# Altium integrated library NSC MiscPower.IntLib: 742 symbols (part 16 of 19)
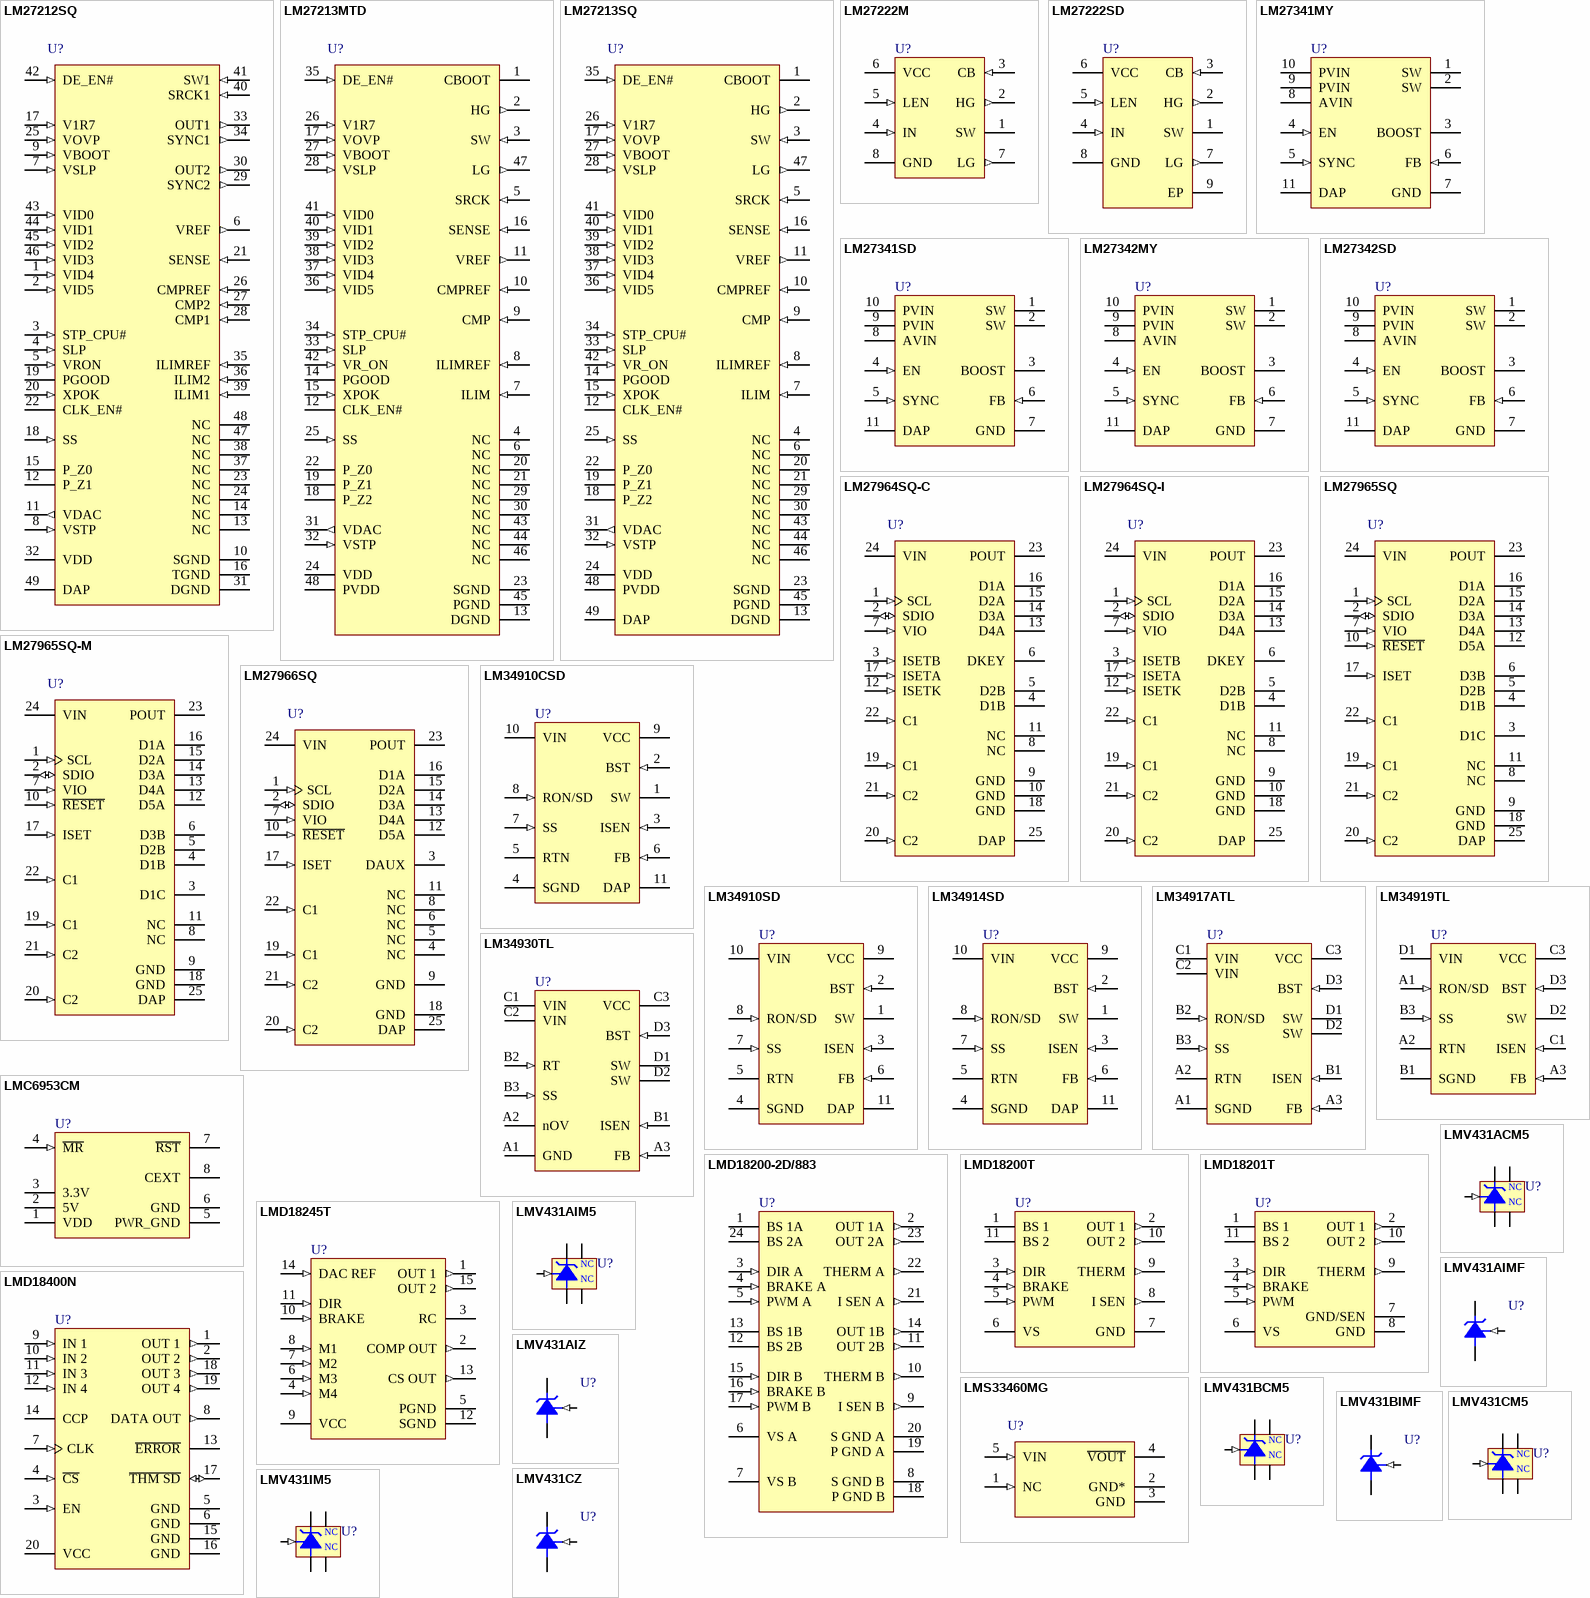
[diagram p40: symbols LM27212SQ to LMV431IM5]

## LM27213SQ
designator U?
Single Phase Hysteretic Buck Controller; PartNumber: LM27213SQ; Manufacturer: National Semiconductor; CompType: MiscPower; PackageTopMarking: NS*UZXYTT*27213SQ; PowerWise: N; FirstPublished: 4-Dec-2008; DatasheetVersion: Feb-2006; PackageVersion: revA, May-2003; PackageReference: SQA48A; Publisher: Altium Limited; PackageDescription: LLP, Plastic, Quad, 7 x 7 x 0.8mm Body, 48 Lead, 0.5mm Pitch, No Pullback; RoHS: Y; PinCount: 48; DigiKeyPartNumber: LM27213SQ-ND; Code_JEDEC: MO-220-WKKD-2; ComponentLink1Description: LM27213 Datasheet; ComponentLink1URL: http://www.national.com/ds/LM/LM27213.pdf; ComponentLink2Description: LM27213 Web Page; ComponentLink2URL: http://www.national.com/pf/LM/LM27213.html; ComponentLink3Description: SQA48A Package Page; ComponentLink3URL: http://www.national.com/packaging/folders/sqa48a.html
footprint SQA48A (QFN, 48-Leads, Body 7x7mm, Pitch 0.5mm, NSC Recommended)
pins: 1 CBOOT, 2 HG (out), 3 SW (in), 4 NC, 5 SRCK (in), 6 NC, 7 ILIM (in), 8 ILIMREF (in), 9 CMP (in), 10 CMPREF (in), 11 VREF (out), 12 CLK_EN# (oc), 13 DGND (power), 14 PGOOD (oc), 15 XPOK (in), 16 SENSE (in), 17 VOVP (in), 18 P_Z2, 19 P_Z1, 20 NC, 21 NC, 22 P_Z0, 23 SGND (power), 24 VDD (power), 25 SS (in), 26 V1R7 (in), 27 VBOOT (in), 28 VSLP (in), 29 NC, 30 NC, 31 VDAC (out), 32 VSTP (in), 33 SLP (in), 34 STP_CPU# (in), 35 DE_EN# (in), 36 VID5 (in), 37 VID4 (in), 38 VID3 (in), 39 VID2 (in), 40 VID1 (in), 41 VID0 (in), 42 VR_ON (in), 43 NC, 44 NC, 45 PGND (power), 46 NC, 47 LG (out), 48 PVDD (power), 49 DAP (power)

## LM27222M
designator U?
High-Speed 4.5A Synchronous MOSFET Driver; PartNumber: LM27222M; Manufacturer: National Semiconductor; CompType: MiscPower; PackageTopMarking: NSZXTT*27222*M; PowerWise: N; FirstPublished: 4-Dec-2008; DatasheetVersion: Mar-2006; PackageVersion: revL, Sep-2006; PackageReference: M08A; Publisher: Altium Limited; PackageDescription: SOIC Narrow, 4.9 x 3.9 x 1.45mm, 8 Lead, 1.27mm Pitch; RoHS: O; PinCount: 8; DigiKeyPartNumber: LM27222M-ND; Code_JEDEC: MS-012-AA; Code_IPC: SOIC127P600-8; ComponentLink1Description: LM27222 Datasheet; ComponentLink1URL: http://www.national.com/ds/LM/LM27222.pdf; ComponentLink2Description: LM27222 Web Page; ComponentLink2URL: http://www.national.com/pf/LM/LM27222.html; ComponentLink3Description: M08A Package Page; ComponentLink3URL: http://www.national.com/packaging/folders/m08a.html
footprint M08A_N (SOIC, 8-Leads, Body 4.9x3.9mm, Pitch 1.27mm, IPC Medium Density)
footprint M08A_L (SOIC, 8-Leads, Body 4.9x3.9mm, Pitch 1.27mm, IPC High Density)
footprint M08A_M (SOIC, 8-Leads, Body 4.9x3.9mm, Pitch 1.27mm, IPC Low Density)
pins: 1 SW (power), 2 HG (out), 3 CB (in), 4 IN (in), 5 LEN (in), 6 VCC (power), 7 LG (out), 8 GND (power)

## LM27222SD
designator U?
High-Speed 4.5A Synchronous MOSFET Driver; PartNumber: LM27222SD; Manufacturer: National Semiconductor; CompType: MiscPower; PackageTopMarking: NS*UZXYTT*L27222S; PowerWise: N; FirstPublished: 4-Dec-2008; DatasheetVersion: Mar-2006; PackageVersion: revA, Jun-2003; PackageReference: SDC08A; Publisher: Altium Limited; PackageDescription: LLP, Plastic, Dual, 4 x 4 x 0.8mm Body, 8 Lead, 0.8mm Pitch, No Pullback; RoHS: Y; PinCount: 8; DigiKeyPartNumber: LM27222SD-ND; ComponentLink1Description: LM27222 Datasheet; ComponentLink1URL: http://www.national.com/ds/LM/LM27222.pdf; ComponentLink2Description: LM27222 Web Page; ComponentLink2URL: http://www.national.com/pf/LM/LM27222.html; ComponentLink3Description: SDC08A Package Page; ComponentLink3URL: http://www.national.com/packaging/folders/sdc08a.html
footprint SDC08A (SON, 8-Leads, Body 4x4mm, Pitch 0.8mm, NSC Recommended)
pins: 1 SW (power), 2 HG (out), 3 CB (in), 4 IN (in), 5 LEN (in), 6 VCC (power), 7 LG (out), 8 GND (power), 9 EP (power)

## LM27341MY
designator U?
2MHz 1.5A - Wide Input Range Buck Regulator with Frequency Synchronization; PartNumber: LM27341MY; Manufacturer: National Semiconductor; CompType: MiscPower; PackageTopMarking: ZXTT*SSCB; PowerWise: N; FirstPublished: 29-May-2009; DatasheetVersion: Dec-2008; PackageVersion: revA, May-2006; PackageReference: MUC10A; Publisher: Altium Limited; PackageDescription: Molded Mini-SO, Exposed Pad .118 x .118 x .034in Body, 10 Lead, .0197in Pitch; RoHS: Y; PinCount: 10; DigiKeyPartNumber: LM27341MYCT-ND; Code_JEDEC: MO-187-BAT; ComponentLink1Description: LM27341 Datasheet; ComponentLink1URL: http://www.national.com/ds/LM/LM27341.pdf; ComponentLink2Description: LM27341 Web Page; ComponentLink2URL: http://www.national.com/pf/LM/LM27341.html; ComponentLink3Description: MUC10A Package Page; ComponentLink3URL: http://www.national.com/packaging/folders/muc10a.html
footprint MUC10A_N (TSSOP, 10-Leads, Body 3x3mm, Pitch 0.5mm, Exposed Pad, IPC Medium Density)
footprint MUC10A_L (TSSOP, 10-Leads, Body 3x3mm, Pitch 0.5mm, Exposed Pad, IPC High Density)
footprint MUC10A_M (TSSOP, 10-Leads, Body 3x3mm, Pitch 0.5mm, Exposed Pad, IPC Low Density)
pins: 1 SW (power), 2 SW (power), 3 BOOST, 4 EN (in), 5 SYNC (in), 6 FB (in), 7 GND (power), 8 AVIN (power), 9 PVIN (power), 10 PVIN (power), 11 DAP (power)

## LM27341SD
designator U?
2MHz 1.5A - Wide Input Range Buck Regulator with Frequency Synchronization; PartNumber: LM27341SD; Manufacturer: National Semiconductor; CompType: MiscPower; PackageTopMarking: ZXYTT*L231B; PowerWise: N; FirstPublished: 29-May-2009; DatasheetVersion: Dec-2008; PackageVersion: revA, Oct-2003; PackageReference: SDA10A; Publisher: Altium Limited; PackageDescription: LLP, Plastic, Dual, 3 x 3 x 0.8mm Body, 10 Lead, 0.5mm Pitch, No Pullback; RoHS: Y; PinCount: 10; DigiKeyPartNumber: LM27341SDCT-ND; ComponentLink1Description: LM27341 Datasheet; ComponentLink1URL: http://www.national.com/ds/LM/LM27341.pdf; ComponentLink2Description: LM27341 Web Page; ComponentLink2URL: http://www.national.com/pf/LM/LM27341.html; ComponentLink3Description: SDA10A Package Page; ComponentLink3URL: http://www.national.com/packaging/folders/sda10a.html
footprint SDA10A (SON, 10-Leads, Body 3x3 mm, Pitch 0.5mm, NSC Recommended)
pins: 1 SW (power), 2 SW (power), 3 BOOST, 4 EN (in), 5 SYNC (in), 6 FB (in), 7 GND (power), 8 AVIN (power), 9 PVIN (power), 10 PVIN (power), 11 DAP (power)

## LM27342MY
designator U?
2MHz 2A - Wide Input Range Buck Regulator with Frequency Synchronization; PartNumber: LM27342MY; Manufacturer: National Semiconductor; CompType: MiscPower; PackageTopMarking: ZXTT*SSCA; PowerWise: N; FirstPublished: 29-May-2009; DatasheetVersion: Dec-2008; PackageVersion: revA, May-2006; PackageReference: MUC10A; Publisher: Altium Limited; PackageDescription: Molded Mini-SO, Exposed Pad .118 x .118 x .034in Body, 10 Lead, .0197in Pitch; RoHS: Y; PinCount: 10; DigiKeyPartNumber: LM27342MYCT-ND; Code_JEDEC: MO-187-BAT; ComponentLink1Description: LM27341 Datasheet; ComponentLink1URL: http://www.national.com/ds/LM/LM27341.pdf; ComponentLink2Description: LM27342 Web Page; ComponentLink2URL: http://www.national.com/pf/LM/LM27342.html; ComponentLink3Description: MUC10A Package Page; ComponentLink3URL: http://www.national.com/packaging/folders/muc10a.html
footprint MUC10A_N (TSSOP, 10-Leads, Body 3x3mm, Pitch 0.5mm, Exposed Pad, IPC Medium Density)
footprint MUC10A_L (TSSOP, 10-Leads, Body 3x3mm, Pitch 0.5mm, Exposed Pad, IPC High Density)
footprint MUC10A_M (TSSOP, 10-Leads, Body 3x3mm, Pitch 0.5mm, Exposed Pad, IPC Low Density)
pins: 1 SW (power), 2 SW (power), 3 BOOST, 4 EN (in), 5 SYNC (in), 6 FB (in), 7 GND (power), 8 AVIN (power), 9 PVIN (power), 10 PVIN (power), 11 DAP (power)

## LM27342SD
designator U?
2MHz 2A - Wide Input Range Buck Regulator with Frequency Synchronization; PartNumber: LM27342SD; Manufacturer: National Semiconductor; CompType: MiscPower; PackageTopMarking: ZXYTT*L231A; PowerWise: N; FirstPublished: 29-May-2009; DatasheetVersion: Dec-2008; PackageVersion: revA, Oct-2003; PackageReference: SDA10A; Publisher: Altium Limited; PackageDescription: LLP, Plastic, Dual, 3 x 3 x 0.8mm Body, 10 Lead, 0.5mm Pitch, No Pullback; RoHS: Y; PinCount: 10; DigiKeyPartNumber: LM27342SDCT-ND; ComponentLink1Description: LM27341 Datasheet; ComponentLink1URL: http://www.national.com/ds/LM/LM27341.pdf; ComponentLink2Description: LM27342 Web Page; ComponentLink2URL: http://www.national.com/pf/LM/LM27342.html; ComponentLink3Description: SDA10A Package Page; ComponentLink3URL: http://www.national.com/packaging/folders/sda10a.html
footprint SDA10A (SON, 10-Leads, Body 3x3 mm, Pitch 0.5mm, NSC Recommended)
pins: 1 SW (power), 2 SW (power), 3 BOOST, 4 EN (in), 5 SYNC (in), 6 FB (in), 7 GND (power), 8 AVIN (power), 9 PVIN (power), 10 PVIN (power), 11 DAP (power)

## LM27964SQ-C
designator U?
White LED Driver System with I2C Compatible Brightness Control; PartNumber: LM27964SQ-C; Manufacturer: National Semiconductor; CompType: MiscPower; PackageTopMarking: NS*UZXYTT*27964-C; PowerWise: N; FirstPublished: 4-Dec-2008; DatasheetVersion: Aug-2007; PackageVersion: revB, Aug-2003; PackageReference: SQA24A; Publisher: Altium Limited; PackageDescription: LLP, Plastic, Quad, 4 x 4 x 0.8mm Body, 24 Lead, 0.5mm Pitch, No Pullback; RoHS: Y; PinCount: 24; Code_JEDEC: MO-220-WGGD-6; ComponentLink1Description: LM27964 Datasheet; ComponentLink1URL: http://www.national.com/ds/LM/LM27964.pdf; ComponentLink2Description: LM27964 Web Page; ComponentLink2URL: http://www.national.com/pf/LM/LM27964.html; ComponentLink3Description: SQA24A Package Page; ComponentLink3URL: http://www.national.com/packaging/folders/sqa24a.html
footprint SQA24A (QFN, 24-Leads, Body 4x4mm, Pitch 0.5mm, NSC Recommended)
pins: 1 SCL (in), 2 SDIO (io), 3 ISETB (in), 4 D1B (oc), 5 D2B (oc), 6 DKEY (oc), 7 VIO (in), 8 NC, 9 GND (power), 10 GND (power), 11 NC, 12 ISETK (in), 13 D4A (oc), 14 D3A (oc), 15 D2A (oc), 16 D1A (oc), 17 ISETA (in), 18 GND (power), 19 C1 (in), 20 C2 (in), 21 C2 (in), 22 C1 (in), 23 POUT (power), 24 VIN (power), 25 DAP (power)

## LM27964SQ-I
designator U?
White LED Driver System with I2C Compatible Brightness Control; PartNumber: LM27964SQ-I; Manufacturer: National Semiconductor; CompType: MiscPower; PackageTopMarking: NS*UZXYTT*L27964S; PowerWise: N; FirstPublished: 4-Dec-2008; DatasheetVersion: Aug-2007; PackageVersion: revB, Aug-2003; PackageReference: SQA24A; Publisher: Altium Limited; PackageDescription: LLP, Plastic, Quad, 4 x 4 x 0.8mm Body, 24 Lead, 0.5mm Pitch, No Pullback; RoHS: Y; PinCount: 24; DigiKeyPartNumber: LM27964SQ-ICT-ND; Code_JEDEC: MO-220-WGGD-6; ComponentLink1Description: LM27964 Datasheet; ComponentLink1URL: http://www.national.com/ds/LM/LM27964.pdf; ComponentLink2Description: LM27964 Web Page; ComponentLink2URL: http://www.national.com/pf/LM/LM27964.html; ComponentLink3Description: SQA24A Package Page; ComponentLink3URL: http://www.national.com/packaging/folders/sqa24a.html
footprint SQA24A (QFN, 24-Leads, Body 4x4mm, Pitch 0.5mm, NSC Recommended)
pins: 1 SCL (in), 2 SDIO (io), 3 ISETB (in), 4 D1B (oc), 5 D2B (oc), 6 DKEY (oc), 7 VIO (in), 8 NC, 9 GND (power), 10 GND (power), 11 NC, 12 ISETK (in), 13 D4A (oc), 14 D3A (oc), 15 D2A (oc), 16 D1A (oc), 17 ISETA (in), 18 GND (power), 19 C1 (in), 20 C2 (in), 21 C2 (in), 22 C1 (in), 23 POUT (power), 24 VIN (power), 25 DAP (power)

## LM27965SQ
designator U?
Dual Display White LED Driver with I2C Compatible Brightness Control; PartNumber: LM27965SQ; Manufacturer: National Semiconductor; CompType: MiscPower; PackageTopMarking: NS*UZXYTT*L27965S; PowerWise: Y; FirstPublished: 4-Dec-2008; DatasheetVersion: Oct-2007; PackageVersion: revB, Aug-2003; PackageReference: SQA24A; Publisher: Altium Limited; PackageDescription: LLP, Plastic, Quad, 4 x 4 x 0.8mm Body, 24 Lead, 0.5mm Pitch, No Pullback; RoHS: Y; PinCount: 24; DigiKeyPartNumber: LM27965SQEV-ND; Code_JEDEC: MO-220-WGGD-6; ComponentLink1Description: LM27965 Datasheet; ComponentLink1URL: http://www.national.com/ds/LM/LM27965.pdf; ComponentLink2Description: LM27965 Web Page; ComponentLink2URL: http://www.national.com/pf/LM/LM27965.html; ComponentLink3Description: SQA24A Package Page; ComponentLink3URL: http://www.national.com/packaging/folders/sqa24a.html
footprint SQA24A (QFN, 24-Leads, Body 4x4mm, Pitch 0.5mm, NSC Recommended)
pins: 1 SCL (in), 2 SDIO (io), 3 D1C (oc), 4 D1B (oc), 5 D2B (oc), 6 D3B (oc), 7 VIO (in), 8 NC, 9 GND (power), 10 ~{RESET} (in), 11 NC, 12 D5A (oc), 13 D4A (oc), 14 D3A (oc), 15 D2A (oc), 16 D1A (oc), 17 ISET (in), 18 GND (power), 19 C1 (in), 20 C2 (in), 21 C2 (in), 22 C1 (in), 23 POUT (power), 24 VIN (power), 25 DAP (power)

## LM27965SQ-M
designator U?
Dual Display White LED Driver with I2C Compatible Brightness Control; PartNumber: LM27965SQ-M; Manufacturer: National Semiconductor; CompType: MiscPower; PackageTopMarking: NS*UZXYTT*27965M; PowerWise: N; FirstPublished: 4-Dec-2008; DatasheetVersion: Oct-2007; PackageVersion: revB, Aug-2003; PackageReference: SQA24A; Publisher: Altium Limited; PackageDescription: LLP, Plastic, Quad, 4 x 4 x 0.8mm Body, 24 Lead, 0.5mm Pitch, No Pullback; RoHS: Y; PinCount: 24; DigiKeyPartNumber: LM27965SQ-MCT-ND; Code_JEDEC: MO-220-WGGD-6; ComponentLink1Description: LM27965 Datasheet; ComponentLink1URL: http://www.national.com/ds/LM/LM27965.pdf; ComponentLink2Description: LM27965 Web Page; ComponentLink2URL: http://www.national.com/pf/LM/LM27965.html; ComponentLink3Description: SQA24A Package Page; ComponentLink3URL: http://www.national.com/packaging/folders/sqa24a.html
footprint SQA24A (QFN, 24-Leads, Body 4x4mm, Pitch 0.5mm, NSC Recommended)
pins: 1 SCL (in), 2 SDIO (io), 3 D1C (oc), 4 D1B (oc), 5 D2B (oc), 6 D3B (oc), 7 VIO (in), 8 NC, 9 GND (power), 10 ~{RESET} (in), 11 NC, 12 D5A (oc), 13 D4A (oc), 14 D3A (oc), 15 D2A (oc), 16 D1A (oc), 17 ISET (in), 18 GND (power), 19 C1 (in), 20 C2 (in), 21 C2 (in), 22 C1 (in), 23 POUT (power), 24 VIN (power), 25 DAP (power)

## LM27966SQ
designator U?
White LED Driver with I2C Compatible Interface; PartNumber: LM27966SQ; Manufacturer: National Semiconductor; CompType: MiscPower; PackageTopMarking: NS*UZXYTT*L27966S; PowerWise: Y; FirstPublished: 4-Dec-2008; DatasheetVersion: Aug-2006; PackageVersion: revB, Aug-2003; PackageReference: SQA24A; Publisher: Altium Limited; PackageDescription: LLP, Plastic, Quad, 4 x 4 x 0.8mm Body, 24 Lead, 0.5mm Pitch, No Pullback; RoHS: Y; PinCount: 24; DigiKeyPartNumber: LM27966SQCT-ND; Code_JEDEC: MO-220-WGGD-6; ComponentLink1Description: LM27966 Datasheet; ComponentLink1URL: http://www.national.com/ds/LM/LM27966.pdf; ComponentLink2Description: LM27966 Web Page; ComponentLink2URL: http://www.national.com/pf/LM/LM27966.html; ComponentLink3Description: SQA24A Package Page; ComponentLink3URL: http://www.national.com/packaging/folders/sqa24a.html
footprint SQA24A (QFN, 24-Leads, Body 4x4mm, Pitch 0.5mm, NSC Recommended)
pins: 1 SCL (in), 2 SDIO (io), 3 DAUX (oc), 4 NC, 5 NC, 6 NC, 7 VIO (in), 8 NC, 9 GND (power), 10 ~{RESET} (in), 11 NC, 12 D5A (oc), 13 D4A (oc), 14 D3A (oc), 15 D2A (oc), 16 D1A (oc), 17 ISET (in), 18 GND (power), 19 C1 (in), 20 C2 (in), 21 C2 (in), 22 C1 (in), 23 POUT (power), 24 VIN (power), 25 DAP (power)

## LM34910CSD
designator U?
High Voltage (50V, 1.25A) Step Down Switching Regulator; PartNumber: LM34910CSD; Manufacturer: National Semiconductor; CompType: MiscPower; PackageTopMarking: NS*UZXYTT*L34910C; PowerWise: N; FirstPublished: 4-Dec-2008; DatasheetVersion: Aug-2007; PackageVersion: revA, May-2003; PackageReference: SDC10A; Publisher: Altium Limited; PackageDescription: LLP, Plastic, Dual, 4 x 4 x 0.8mm Body, 10 Lead, 0.8mm Pitch, No Pullback; RoHS: Y; PinCount: 10; DigiKeyPartNumber: LM34910CSDCT-ND; ComponentLink1Description: LM34910C Datasheet; ComponentLink1URL: http://www.national.com/ds/LM/LM34910C.pdf; ComponentLink2Description: LM34910C Web Page; ComponentLink2URL: http://www.national.com/pf/LM/LM34910C.html; ComponentLink3Description: SDC10A Package Page; ComponentLink3URL: http://www.national.com/packaging/folders/sdc10a.html
footprint SDC10A (SON, 10-Leads, Body 4x4 mm, Pitch 0.8mm, NSC Recommended)
pins: 1 SW (power), 2 BST (in), 3 ISEN (in), 4 SGND (power), 5 RTN (power), 6 FB (in), 7 SS (in), 8 RON/SD (in), 9 VCC (power), 10 VIN (power), 11 DAP (power)

## LM34910SD
designator U?
High Voltage (40V, 1.25A) Step Down Switching Regulator; PartNumber: LM34910SD; Manufacturer: National Semiconductor; CompType: MiscPower; PackageTopMarking: NS*UZXYTT*34910SD; PowerWise: N; FirstPublished: 4-Dec-2008; DatasheetVersion: Feb-2005; PackageVersion: revA, May-2003; PackageReference: SDC10A; Publisher: Altium Limited; PackageDescription: LLP, Plastic, Dual, 4 x 4 x 0.8mm Body, 10 Lead, 0.8mm Pitch, No Pullback; RoHS: O; PinCount: 10; DigiKeyPartNumber: LM34910SDCT-ND; ComponentLink1Description: LM34910 Datasheet; ComponentLink1URL: http://www.national.com/ds/LM/LM34910.pdf; ComponentLink2Description: LM34910 Web Page; ComponentLink2URL: http://www.national.com/pf/LM/LM34910.html; ComponentLink3Description: SDC10A Package Page; ComponentLink3URL: http://www.national.com/packaging/folders/sdc10a.html
footprint SDC10A (SON, 10-Leads, Body 4x4 mm, Pitch 0.8mm, NSC Recommended)
pins: 1 SW (power), 2 BST (in), 3 ISEN (in), 4 SGND (power), 5 RTN (power), 6 FB (in), 7 SS (in), 8 RON/SD (in), 9 VCC (power), 10 VIN (power), 11 DAP (power)

## LM34914SD
designator U?
Ultra Small 1.25A Step-Down Switching Regulator with Intelligent Current Limit; PartNumber: LM34914SD; Manufacturer: National Semiconductor; CompType: MiscPower; PackageTopMarking: ZXYTT*34914; PowerWise: N; FirstPublished: 4-Dec-2008; DatasheetVersion: Dec-2007; PackageVersion: revA, Oct-2003; PackageReference: SDA10A; Publisher: Altium Limited; PackageDescription: LLP, Plastic, Dual, 3 x 3 x 0.8mm Body, 10 Lead, 0.5mm Pitch, No Pullback; RoHS: Y; PinCount: 10; DigiKeyPartNumber: LM34914SDCT-ND; ComponentLink1Description: LM34914 Datasheet; ComponentLink1URL: http://www.national.com/ds/LM/LM34914.pdf; ComponentLink2Description: LM34914 Web Page; ComponentLink2URL: http://www.national.com/pf/LM/LM34914.html; ComponentLink3Description: SDA10A Package Page; ComponentLink3URL: http://www.national.com/packaging/folders/sda10a.html
footprint SDA10A (SON, 10-Leads, Body 3x3 mm, Pitch 0.5mm, NSC Recommended)
pins: 1 SW (power), 2 BST (in), 3 ISEN (in), 4 SGND (power), 5 RTN (power), 6 FB (in), 7 SS (in), 8 RON/SD (in), 9 VCC (power), 10 VIN (power), 11 DAP (power)

## LM34917ATL
designator U?
Ultra Small 33V, 1.25A Constant On-Time Buck Switching Regulator with Intelligent Current Limit; PartNumber: LM34917ATL; Manufacturer: National Semiconductor; CompType: MiscPower; PackageTopMarking: XYTT*I SRHA; PowerWise: Y; FirstPublished: 4-Dec-2008; DatasheetVersion: May-2008; PackageVersion: revC, Jan-2004; PackageReference: TLA12UNA; Publisher: Altium Limited; PackageDescription: Thin Micro SMD, 12 Bump (Large), Area Array, 0.5mm Pitch; RoHS: Y; PinCount: 12; DigiKeyPartNumber: LM34917ATL-ND; Code_JEDEC: MO-211-DE; ComponentLink1Description: LM34917A Datasheet; ComponentLink1URL: http://www.national.com/ds/LM/LM34917A.pdf; ComponentLink2Description: LM34917A Web Page; ComponentLink2URL: http://www.national.com/pf/LM/LM34917A.html; ComponentLink3Description: TLA12UNA Package Page; ComponentLink3URL: http://www.national.com/packaging/folders/tla12una.html
footprint TLA12UNA (Micro SMD, 12-Leads, Body 2.3x1.97mm, Pitch 0.5mm, NSC Recommended)
pins: A1 SGND (power), A2 RTN (power), A3 FB (in), B1 ISEN (in), B2 RON/SD (in), B3 SS (in), C1 VIN (power), C2 VIN (power), C3 VCC (power), D1 SW (power), D2 SW (power), D3 BST (in)

## LM34919TL
designator U?
Ultra Small 40V, 600 mA Constant On-Time Buck Switching Regulator; PartNumber: LM34919TL; Manufacturer: National Semiconductor; CompType: MiscPower; PackageTopMarking: XYTT*I SRYB; PowerWise: Y; FirstPublished: 4-Dec-2008; DatasheetVersion: Jun-2008; PackageVersion: revD, Mar-2004; PackageReference: TLP10A1A; Publisher: Altium Limited; PackageDescription: Thin Micro SMD, 10 Bump (Large), Periperal, 0.5mm Pitch; RoHS: Y; PinCount: 10; DigiKeyPartNumber: LM34919TLCT-ND; Code_JEDEC: MO-211-BD; ComponentLink1Description: LM34919 Datasheet; ComponentLink1URL: http://www.national.com/ds/LM/LM34919.pdf; ComponentLink2Description: LM34919 Web Page; ComponentLink2URL: http://www.national.com/pf/LM/LM34919.html; ComponentLink3Description: TLP10A1A Package Page; ComponentLink3URL: http://www.national.com/packaging/folders/tlp10a1a.html
footprint TLP10A1A (Micro SMD, 10-Leads, Body 1.97x1.51mm, Pitch 0.5mm, NSC Recommended)
pins: A1 RON/SD (in), A2 RTN (power), A3 FB (in), B1 SGND (power), B3 SS (in), C1 ISEN (in), C3 VCC (power), D1 VIN (power), D2 SW (power), D3 BST (in)

## LM34930TL
designator U?
Ultra Small 33V, 1A Constant On-Time Buck Switching Regulator with Intelligent Current Limit; PartNumber: LM34930TL; Manufacturer: National Semiconductor; CompType: MiscPower; PackageTopMarking: XYTT*I STCB; PowerWise: Y; FirstPublished: 4-Dec-2008; DatasheetVersion: Jun-2008; PackageVersion: revC, Jan-2004; PackageReference: TLA12LDA; Publisher: Altium Limited; PackageDescription: Thin Micro SMD, 12 Bump (Large), Area Array, 0.5mm Pitch; RoHS: Y; PinCount: 12; DigiKeyPartNumber: LM34930TLCT-ND; Code_JEDEC: MO-211-DE; ComponentLink1Description: LM34930 Datasheet; ComponentLink1URL: http://www.national.com/ds/LM/LM34930.pdf; ComponentLink2Description: LM34930 Web Page; ComponentLink2URL: http://www.national.com/pf/LM/LM34930.html; ComponentLink3Description: TLA12LDA Package Page; ComponentLink3URL: http://www.national.com/packaging/folders/tla12lda.html
footprint TLA12LDA (Micro SMD, 12-Leads, Body 2.07x1.77mm, Pitch 0.5mm, NSC Recommended)
pins: A1 GND (power), A2 nOV (oc), A3 FB (in), B1 ISEN (in), B2 RT (in), B3 SS (in), C1 VIN (power), C2 VIN (power), C3 VCC (power), D1 SW (power), D2 SW (power), D3 BST (in)

## LMC6953CM
designator U?
PCI Local Bus Power Supervisor; PartNumber: LMC6953CM; Manufacturer: National Semiconductor; CompType: MiscPower; PackageTopMarking: NSZXTT*LMC69*53CM; PowerWise: N; FirstPublished: 4-Dec-2008; DatasheetVersion: Feb-2005; PackageVersion: revL, Sep-2006; PackageReference: M08A; Publisher: Altium Limited; PackageDescription: SOIC Narrow, 4.9 x 3.9 x 1.45mm, 8 Lead, 1.27mm Pitch; RoHS: O; PinCount: 8; DigiKeyPartNumber: LMC6953CM-ND; Code_JEDEC: MS-012-AA; Code_IPC: SOIC127P600-8; ComponentLink1Description: LMC6953 Datasheet; ComponentLink1URL: http://www.national.com/ds/LM/LMC6953.pdf; ComponentLink2Description: LMC6953 Web Page; ComponentLink2URL: http://www.national.com/pf/LM/LMC6953.html; ComponentLink3Description: M08A Package Page; ComponentLink3URL: http://www.national.com/packaging/folders/m08a.html
footprint M08A_N (SOIC, 8-Leads, Body 4.9x3.9mm, Pitch 1.27mm, IPC Medium Density)
footprint M08A_L (SOIC, 8-Leads, Body 4.9x3.9mm, Pitch 1.27mm, IPC High Density)
footprint M08A_M (SOIC, 8-Leads, Body 4.9x3.9mm, Pitch 1.27mm, IPC Low Density)
pins: 1 VDD (power), 2 5V (power), 3 3.3V (power), 4 ~{MR} (in), 5 PWR_GND (power), 6 GND (power), 7 ~{RST} (oc), 8 CEXT

## LMD18200-2D/883
designator U?
3A, 55V H-Bridge; PartNumber: LMD18200-2D/883; Manufacturer: National Semiconductor; CompType: MiscPower; PackageTopMarking: NS ZSSXXYYA*LMD18200-2D/883 Q*5962-9232501MXA; PowerWise: N; FirstPublished: 4-Dec-2008; DatasheetVersion: Apr-2005; PackageVersion: revA, Feb-1994; PackageReference: DA24B; Publisher: Altium Limited; PackageDescription: DIP, Sidebrazed Ceramic, 24 Lead, Dual Cavity, .600in Centers; RoHS: N; PinCount: 24; Code_JEDEC: MS-015-CA; ComponentLink1Description: LMD18200 Datasheet; ComponentLink1URL: http://www.national.com/ds/LM/LMD18200.pdf; ComponentLink2Description: LMD18200 Web Page; ComponentLink2URL: http://www.national.com/pf/LM/LMD18200.html; ComponentLink3Description: DA24B Package Page; ComponentLink3URL: http://www.national.com/packaging/folders/da24b.html
footprint DA24B (DIP, 24-Leads, Row Spacing 15.24mm, Pitch 2.54mm, Body 31.2x15.1mm)
pins: 1 BS 1A, 2 OUT 1A (out), 3 DIR A (in), 4 BRAKE A (in), 5 PWM A (in), 6 VS A (power), 7 VS B (power), 8 S GND B (power), 9 I SEN B (out), 10 THERM B (out), 11 OUT 2B (out), 12 BS 2B, 13 BS 1B, 14 OUT 1B (out), 15 DIR B (in), 16 BRAKE B (in), 17 PWM B (in), 18 P GND B (power), 19 P GND A (power), 20 S GND A (power), 21 I SEN A (out), 22 THERM A (out), 23 OUT 2A (out), 24 BS 2A

## LMD18200T
designator U?
3A, 55V H-Bridge; PartNumber: LMD18200T; Manufacturer: National Semiconductor; CompType: MiscPower; PackageTopMarking: NSUZXYTTE#*LMD18200T*P+; PowerWise: N; FirstPublished: 4-Dec-2008; DatasheetVersion: Apr-2005; PackageVersion: revA, Mar-1987; PackageReference: TA11B; Publisher: Altium Limited; PackageDescription: TO-220, Molded, .788 x .421in Body, 11 Lead, .067in Pitch; RoHS: O; PinCount: 11; DigiKeyPartNumber: LMD18200T-ND; ComponentLink1Description: LMD18200 Datasheet; ComponentLink1URL: http://www.national.com/ds/LM/LMD18200.pdf; ComponentLink2Description: LMD18200 Web Page; ComponentLink2URL: http://www.national.com/pf/LM/LMD18200.html; ComponentLink3Description: TA11B Package Page; ComponentLink3URL: http://www.national.com/packaging/folders/ta11b.html
footprint TA11B (TO, Thru-Hole, Vertical, Heatsink Mounted; 11 Bent Staggered Leads; Pitch 1.7 mm)
pins: 1 BS 1, 2 OUT 1 (out), 3 DIR (in), 4 BRAKE (in), 5 PWM (in), 6 VS (power), 7 GND (power), 8 I SEN (out), 9 THERM (out), 10 OUT 2 (out), 11 BS 2

## LMD18201T
designator U?
3-Amp, 55 Volt H-Bridge; PartNumber: LMD18201T; Manufacturer: National Semiconductor; CompType: MiscPower; PackageTopMarking: NSUZXYTTE#*LMD18201T P+; PowerWise: N; FirstPublished: 4-Dec-2008; DatasheetVersion: Oct-2000; PackageVersion: revA, Mar-1987; PackageReference: TA11B; Publisher: Altium Limited; PackageDescription: TO-220, Molded, .788 x .421in Body, 11 Lead, .067in Pitch; RoHS: O; PinCount: 11; DigiKeyPartNumber: LMD18201T-ND; ComponentLink1Description: LMD18201 Datasheet; ComponentLink1URL: http://www.national.com/ds/LM/LMD18201.pdf; ComponentLink2Description: LMD18201 Web Page; ComponentLink2URL: http://www.national.com/pf/LM/LMD18201.html; ComponentLink3Description: TA11B Package Page; ComponentLink3URL: http://www.national.com/packaging/folders/ta11b.html
footprint TA11B (TO, Thru-Hole, Vertical, Heatsink Mounted; 11 Bent Staggered Leads; Pitch 1.7 mm)
pins: 1 BS 1, 2 OUT 1 (out), 3 DIR (in), 4 BRAKE (in), 5 PWM (in), 6 VS (power), 7 GND/SEN (power), 8 GND (power), 9 THERM (out), 10 OUT 2 (out), 11 BS 2

## LMD18245T
designator U?
3A, 55V DMOS Full-Bridge Motor Driver; PartNumber: LMD18245T; Manufacturer: National Semiconductor; CompType: MiscPower; PackageTopMarking: NSUZXYTTE#*LMD18245T*P+; PowerWise: N; FirstPublished: 4-Dec-2008; DatasheetVersion: Mar-2006; PackageVersion: revA, Nov-1985; PackageReference: TA15A; Publisher: Altium Limited; PackageDescription: TO-220, Molded, .788 x .421in Body, 15 Lead, .05in Pitch; RoHS: O; PinCount: 15; DigiKeyPartNumber: LMD18245T-ND; ComponentLink1Description: LMD18245 Datasheet; ComponentLink1URL: http://www.national.com/ds/LM/LMD18245.pdf; ComponentLink2Description: LMD18245 Web Page; ComponentLink2URL: http://www.national.com/pf/LM/LMD18245.html; ComponentLink3Description: TA15A Package Page; ComponentLink3URL: http://www.national.com/packaging/folders/ta15a.html
footprint TA15A (TO, Thru-Hole, Vertical, Heatsink Mounted; 15 Bent Staggered Leads; Pitch 1.27 mm)
pins: 1 OUT 1 (out), 2 COMP OUT (out), 3 RC, 4 M4 (in), 5 PGND (power), 6 M3 (in), 7 M2 (in), 8 M1 (in), 9 VCC (power), 10 BRAKE (in), 11 DIR (in), 12 SGND (power), 13 CS OUT (out), 14 DAC REF (in), 15 OUT 2 (out)

## LMD18400N
designator U?
Quad High Side Driver; PartNumber: LMD18400N; Manufacturer: National Semiconductor; CompType: MiscPower; PackageTopMarking: NSUZXYYTTE#*LMD18400N; PowerWise: N; FirstPublished: 4-Dec-2008; DatasheetVersion: Jun-1996; PackageVersion: revG, Nov-1984; PackageReference: N20A; Publisher: Altium Limited; PackageDescription: Molded Dip (N) 20 Lead; RoHS: O; PinCount: 20; DigiKeyPartNumber: LMD18400N-ND; Code_JEDEC: MS-001-AD; ComponentLink1Description: LMD18400 Datasheet; ComponentLink1URL: http://www.national.com/ds/LM/LMD18400.pdf; ComponentLink2Description: LMD18400 Web Page; ComponentLink2URL: http://www.national.com/pf/LM/LMD18400.html; ComponentLink3Description: N20A Package Page; ComponentLink3URL: http://www.national.com/packaging/folders/n20a.html
footprint N20A (DIP, 20-Leads, Row Spacing 7.62mm, Pitch 2.54mm, Body 26.07x6.6mm)
pins: 1 OUT 1 (out), 2 OUT 2 (out), 3 EN (in), 4 ~{CS} (in), 5 GND (power), 6 GND (power), 7 CLK (in), 8 DATA OUT (out), 9 IN 1 (in), 10 IN 2 (in), 11 IN 3 (in), 12 IN 4 (in), 13 ~{ERROR} (oc), 14 CCP, 15 GND (power), 16 GND (power), 17 ~{THM SD} (io), 18 OUT 3 (out), 19 OUT 4 (out), 20 VCC (power)

## LMS33460MG
designator U?
3V Under Voltage Detector; PartNumber: LMS33460MG; Manufacturer: National Semiconductor; CompType: MiscPower; PackageTopMarking: C33*XTT; PowerWise: N; FirstPublished: 4-Dec-2008; DatasheetVersion: Mar-2001; PackageVersion: revD, Jun-2007; PackageReference: MAA05A; Publisher: Altium Limited; PackageDescription: Molded SC-70, 2 x 1.25 x .9mm, 5 Lead, 0.65mm Pitch; RoHS: O; PinCount: 5; DigiKeyPartNumber: LMS33460MG-ND; Code_JEITA: SC-88A; Code_JEDEC: MO-203-AA; Code_IPC: SOT353-5; ComponentLink1Description: LMS33460 Datasheet; ComponentLink1URL: http://www.national.com/ds/LM/LMS33460.pdf; ComponentLink2Description: LMS33460 Web Page; ComponentLink2URL: http://www.national.com/pf/LM/LMS33460.html; ComponentLink3Description: MAA05A Package Page; ComponentLink3URL: http://www.national.com/packaging/folders/maa05a.html
footprint MAA05A_N (SOT353, 5-Leads, Body 2x1.3mm, Pitch 0.65mm, Lead Span 2.1mm, IPC Medium Density)
footprint MAA05A_L (SOT353, 5-Leads, Body 2x1.3mm, Pitch 0.65mm, Lead Span 2.1mm, IPC High Density)
footprint MAA05A_M (SOT353, 5-Leads, Body 2x1.3mm, Pitch 0.65mm, Lead Span 2.1mm, IPC Low Density)
pins: 1 NC (in), 2 GND* "Internally connected to ground.  This pin should be either left floating or connected to ground.", 3 GND (power), 4 ~{VOUT} (oc), 5 VIN (in)

## LMV431ACM5
designator U?
Low-Voltage (1.24V) Adjustable Precision Shunt Regulator; PartNumber: LMV431ACM5; Manufacturer: National Semiconductor; CompType: MiscPower; PackageTopMarking: N09A*XTT; PowerWise: N; FirstPublished: 4-Dec-2008; DatasheetVersion: May-2005; PackageVersion: revD, Aug-2008; PackageReference: MF05A; Publisher: Altium Limited; PackageDescription: Molded SOT-23, .115 x .063 x .040 in Body, 5 Lead, .0375 in Pitch; RoHS: O; PinCount: 5; DigiKeyPartNumber: LMV431ACM5CT-ND; ComponentLink1Description: LMV431 Datasheet; ComponentLink1URL: http://www.national.com/ds/LM/LMV431.pdf; ComponentLink2Description: LMV431A Web Page; ComponentLink2URL: http://www.national.com/pf/LM/LMV431A.html; ComponentLink3Description: MF05A Package Page; ComponentLink3URL: http://www.national.com/packaging/folders/mf05a.html
footprint MF05A_N (SOT23, 5-Leads, Body 2.9x1.6mm, Pitch 0.95mm, Lead Span 2.8mm, IPC Medium Density)
footprint MF05A_L (SOT23, 5-Leads, Body 2.9x1.6mm, Pitch 0.95mm, Lead Span 2.8mm, IPC High Density)
footprint MF05A_M (SOT23, 5-Leads, Body 2.9x1.6mm, Pitch 0.95mm, Lead Span 2.8mm, IPC Low Density)
pins: 1 NC, 2 NC, 3 K, 4 REF (in), 5 A

## LMV431AIM5
designator U?
Low-Voltage (1.24V) Adjustable Precision Shunt Regulator; PartNumber: LMV431AIM5; Manufacturer: National Semiconductor; CompType: MiscPower; PackageTopMarking: N08A*XTT; PowerWise: N; FirstPublished: 4-Dec-2008; DatasheetVersion: May-2005; PackageVersion: revD, Aug-2008; PackageReference: MF05A; Publisher: Altium Limited; PackageDescription: Molded SOT-23, .115 x .063 x .040 in Body, 5 Lead, .0375 in Pitch; RoHS: O; PinCount: 5; DigiKeyPartNumber: LMV431AIM5CT-ND; ComponentLink1Description: LMV431 Datasheet; ComponentLink1URL: http://www.national.com/ds/LM/LMV431.pdf; ComponentLink2Description: LMV431A Web Page; ComponentLink2URL: http://www.national.com/pf/LM/LMV431A.html; ComponentLink3Description: MF05A Package Page; ComponentLink3URL: http://www.national.com/packaging/folders/mf05a.html
footprint MF05A_N (SOT23, 5-Leads, Body 2.9x1.6mm, Pitch 0.95mm, Lead Span 2.8mm, IPC Medium Density)
footprint MF05A_L (SOT23, 5-Leads, Body 2.9x1.6mm, Pitch 0.95mm, Lead Span 2.8mm, IPC High Density)
footprint MF05A_M (SOT23, 5-Leads, Body 2.9x1.6mm, Pitch 0.95mm, Lead Span 2.8mm, IPC Low Density)
pins: 1 NC, 2 NC, 3 K, 4 REF (in), 5 A

## LMV431AIMF
designator U?
Low-Voltage (1.24V) Adjustable Precision Shunt Regulator; PartNumber: LMV431AIMF; Manufacturer: National Semiconductor; CompType: MiscPower; PackageTopMarking: RLA*XTT; PowerWise: N; FirstPublished: 4-Dec-2008; DatasheetVersion: May-2005; PackageVersion: revB, Mar-2003; PackageReference: MF03A; Publisher: Altium Limited; PackageDescription: Molded SOT-23, .115 x .051 x .037in Body, 3 Lead, .075 in Pitch; RoHS: Y; PinCount: 3; DigiKeyPartNumber: LMV431AIMF-ND; ComponentLink1Description: LMV431 Datasheet; ComponentLink1URL: http://www.national.com/ds/LM/LMV431.pdf; ComponentLink2Description: LMV431A Web Page; ComponentLink2URL: http://www.national.com/pf/LM/LMV431A.html; ComponentLink3Description: MF03A Package Page; ComponentLink3URL: http://www.national.com/packaging/folders/mf03a.html
footprint MF03A_N (SOT23, 3-Leads, Body 2.9x1.3mm, Pitch 0.95mm, Lead Span 2.4mm, IPC Medium Density)
footprint MF03A_L (SOT23, 3-Leads, Body 2.9x1.3mm, Pitch 0.95mm, Lead Span 2.4mm, IPC High Density)
footprint MF03A_M (SOT23, 3-Leads, Body 2.9x1.3mm, Pitch 0.95mm, Lead Span 2.4mm, IPC Low Density)
pins: 1 REF (in), 2 K, 3 A

## LMV431AIZ
designator U?
Low-Voltage (1.24V) Adjustable Precision Shunt Regulator; PartNumber: LMV431AIZ; Manufacturer: National Semiconductor; CompType: MiscPower; PackageTopMarking: NSXYTT*LMV431*AIZ; PowerWise: N; FirstPublished: 4-Dec-2008; DatasheetVersion: May-2005; PackageVersion: revG, Sep-2000; PackageReference: Z03A; Publisher: Altium Limited; PackageDescription: TO-92, Molded, 3 Lead; RoHS: Y; PinCount: 3; DigiKeyPartNumber: LMV431AIZ-ND; Code_JEDEC: TO-226-AA; ComponentLink1Description: LMV431 Datasheet; ComponentLink1URL: http://www.national.com/ds/LM/LMV431.pdf; ComponentLink2Description: LMV431A Web Page; ComponentLink2URL: http://www.national.com/pf/LM/LMV431A.html; ComponentLink3Description: Z03A Package Page; ComponentLink3URL: http://www.national.com/packaging/folders/z03a.html
footprint Z03A (TO, Flat Index; 3 In-Line, Axial Leads; Body Dia. 5mm; Leads 0.55 x 0.50 mm (max))
pins: 1 REF (in), 2 A, 3 K

## LMV431BCM5
designator U?
Low-Voltage (1.24V) Adjustable Precision Shunt Regulator; PartNumber: LMV431BCM5; Manufacturer: National Semiconductor; CompType: MiscPower; PackageTopMarking: N09C*XTT; PowerWise: N; FirstPublished: 4-Dec-2008; DatasheetVersion: May-2005; PackageVersion: revD, Aug-2008; PackageReference: MF05A; Publisher: Altium Limited; PackageDescription: Molded SOT-23, .115 x .063 x .040 in Body, 5 Lead, .0375 in Pitch; RoHS: Y; PinCount: 5; DigiKeyPartNumber: LMV431BCM5-ND; ComponentLink1Description: LMV431 Datasheet; ComponentLink1URL: http://www.national.com/ds/LM/LMV431.pdf; ComponentLink2Description: LMV431B Web Page; ComponentLink2URL: http://www.national.com/pf/LM/LMV431B.html; ComponentLink3Description: MF05A Package Page; ComponentLink3URL: http://www.national.com/packaging/folders/mf05a.html
footprint MF05A_N (SOT23, 5-Leads, Body 2.9x1.6mm, Pitch 0.95mm, Lead Span 2.8mm, IPC Medium Density)
footprint MF05A_L (SOT23, 5-Leads, Body 2.9x1.6mm, Pitch 0.95mm, Lead Span 2.8mm, IPC High Density)
footprint MF05A_M (SOT23, 5-Leads, Body 2.9x1.6mm, Pitch 0.95mm, Lead Span 2.8mm, IPC Low Density)
pins: 1 NC, 2 NC, 3 K, 4 REF (in), 5 A

## LMV431BIMF
designator U?
Low-Voltage (1.24V) Adjustable Precision Shunt Regulator; PartNumber: LMV431BIMF; Manufacturer: National Semiconductor; CompType: MiscPower; PackageTopMarking: RLB*XTT; PowerWise: N; FirstPublished: 4-Dec-2008; DatasheetVersion: May-2005; PackageVersion: revB, Mar-2003; PackageReference: MF03A; Publisher: Altium Limited; PackageDescription: Molded SOT-23, .115 x .051 x .037in Body, 3 Lead, .075 in Pitch; RoHS: Y; PinCount: 3; DigiKeyPartNumber: LMV431BIMF-ND; ComponentLink1Description: LMV431 Datasheet; ComponentLink1URL: http://www.national.com/ds/LM/LMV431.pdf; ComponentLink2Description: LMV431B Web Page; ComponentLink2URL: http://www.national.com/pf/LM/LMV431B.html; ComponentLink3Description: MF03A Package Page; ComponentLink3URL: http://www.national.com/packaging/folders/mf03a.html
footprint MF03A_N (SOT23, 3-Leads, Body 2.9x1.3mm, Pitch 0.95mm, Lead Span 2.4mm, IPC Medium Density)
footprint MF03A_L (SOT23, 3-Leads, Body 2.9x1.3mm, Pitch 0.95mm, Lead Span 2.4mm, IPC High Density)
footprint MF03A_M (SOT23, 3-Leads, Body 2.9x1.3mm, Pitch 0.95mm, Lead Span 2.4mm, IPC Low Density)
pins: 1 REF (in), 2 K, 3 A

## LMV431CM5
designator U?
Low-Voltage (1.24V) Adjustable Precision Shunt Regulator; PartNumber: LMV431CM5; Manufacturer: National Semiconductor; CompType: MiscPower; PackageTopMarking: N09B*XTT; PowerWise: N; FirstPublished: 4-Dec-2008; DatasheetVersion: May-2005; PackageVersion: revD, Aug-2008; PackageReference: MF05A; Publisher: Altium Limited; PackageDescription: Molded SOT-23, .115 x .063 x .040 in Body, 5 Lead, .0375 in Pitch; RoHS: O; PinCount: 5; DigiKeyPartNumber: LMV431CM5CT-ND; ComponentLink1Description: LMV431 Datasheet; ComponentLink1URL: http://www.national.com/ds/LM/LMV431.pdf; ComponentLink2Description: LMV431 Web Page; ComponentLink2URL: http://www.national.com/mpf/LM/LMV431.html; ComponentLink3Description: MF05A Package Page; ComponentLink3URL: http://www.national.com/packaging/folders/mf05a.html
footprint MF05A_N (SOT23, 5-Leads, Body 2.9x1.6mm, Pitch 0.95mm, Lead Span 2.8mm, IPC Medium Density)
footprint MF05A_L (SOT23, 5-Leads, Body 2.9x1.6mm, Pitch 0.95mm, Lead Span 2.8mm, IPC High Density)
footprint MF05A_M (SOT23, 5-Leads, Body 2.9x1.6mm, Pitch 0.95mm, Lead Span 2.8mm, IPC Low Density)
pins: 1 NC, 2 NC, 3 K, 4 REF (in), 5 A

## LMV431CZ
designator U?
Low-Voltage (1.24V) Adjustable Precision Shunt Regulator; PartNumber: LMV431CZ; Manufacturer: National Semiconductor; CompType: MiscPower; PackageTopMarking: NSXYTT*LMV431*CZ; PowerWise: N; FirstPublished: 29-May-2009; DatasheetVersion: May-2005; PackageVersion: revG, Sep-2000; PackageReference: Z03A; Publisher: Altium Limited; PackageDescription: TO-92, Molded, 3 Lead; RoHS: Y; PinCount: 3; DigiKeyPartNumber: LMV431CZ-ND; Code_JEDEC: TO-226-AA; ComponentLink1Description: LMV431 Datasheet; ComponentLink1URL: http://www.national.com/ds/LM/LMV431.pdf; ComponentLink2Description: LMV431 Web Page; ComponentLink2URL: http://www.national.com/mpf/LM/LMV431.html; ComponentLink3Description: Z03A Package Page; ComponentLink3URL: http://www.national.com/packaging/folders/z03a.html
footprint Z03A (TO, Flat Index; 3 In-Line, Axial Leads; Body Dia. 5mm; Leads 0.55 x 0.50 mm (max))
pins: 1 REF (in), 2 A, 3 K

## LMV431IM5
designator U?
Low-Voltage (1.24V) Adjustable Precision Shunt Regulator; PartNumber: LMV431IM5; Manufacturer: National Semiconductor; CompType: MiscPower; PackageTopMarking: N08B*XTT; PowerWise: N; FirstPublished: 4-Dec-2008; DatasheetVersion: May-2005; PackageVersion: revD, Aug-2008; PackageReference: MF05A; Publisher: Altium Limited; PackageDescription: Molded SOT-23, .115 x .063 x .040 in Body, 5 Lead, .0375 in Pitch; RoHS: O; PinCount: 5; DigiKeyPartNumber: LMV431IM5CT-ND; ComponentLink1Description: LMV431 Datasheet; ComponentLink1URL: http://www.national.com/ds/LM/LMV431.pdf; ComponentLink2Description: LMV431 Web Page; ComponentLink2URL: http://www.national.com/mpf/LM/LMV431.html; ComponentLink3Description: MF05A Package Page; ComponentLink3URL: http://www.national.com/packaging/folders/mf05a.html
footprint MF05A_N (SOT23, 5-Leads, Body 2.9x1.6mm, Pitch 0.95mm, Lead Span 2.8mm, IPC Medium Density)
footprint MF05A_L (SOT23, 5-Leads, Body 2.9x1.6mm, Pitch 0.95mm, Lead Span 2.8mm, IPC High Density)
footprint MF05A_M (SOT23, 5-Leads, Body 2.9x1.6mm, Pitch 0.95mm, Lead Span 2.8mm, IPC Low Density)
pins: 1 NC, 2 NC, 3 K, 4 REF (in), 5 A

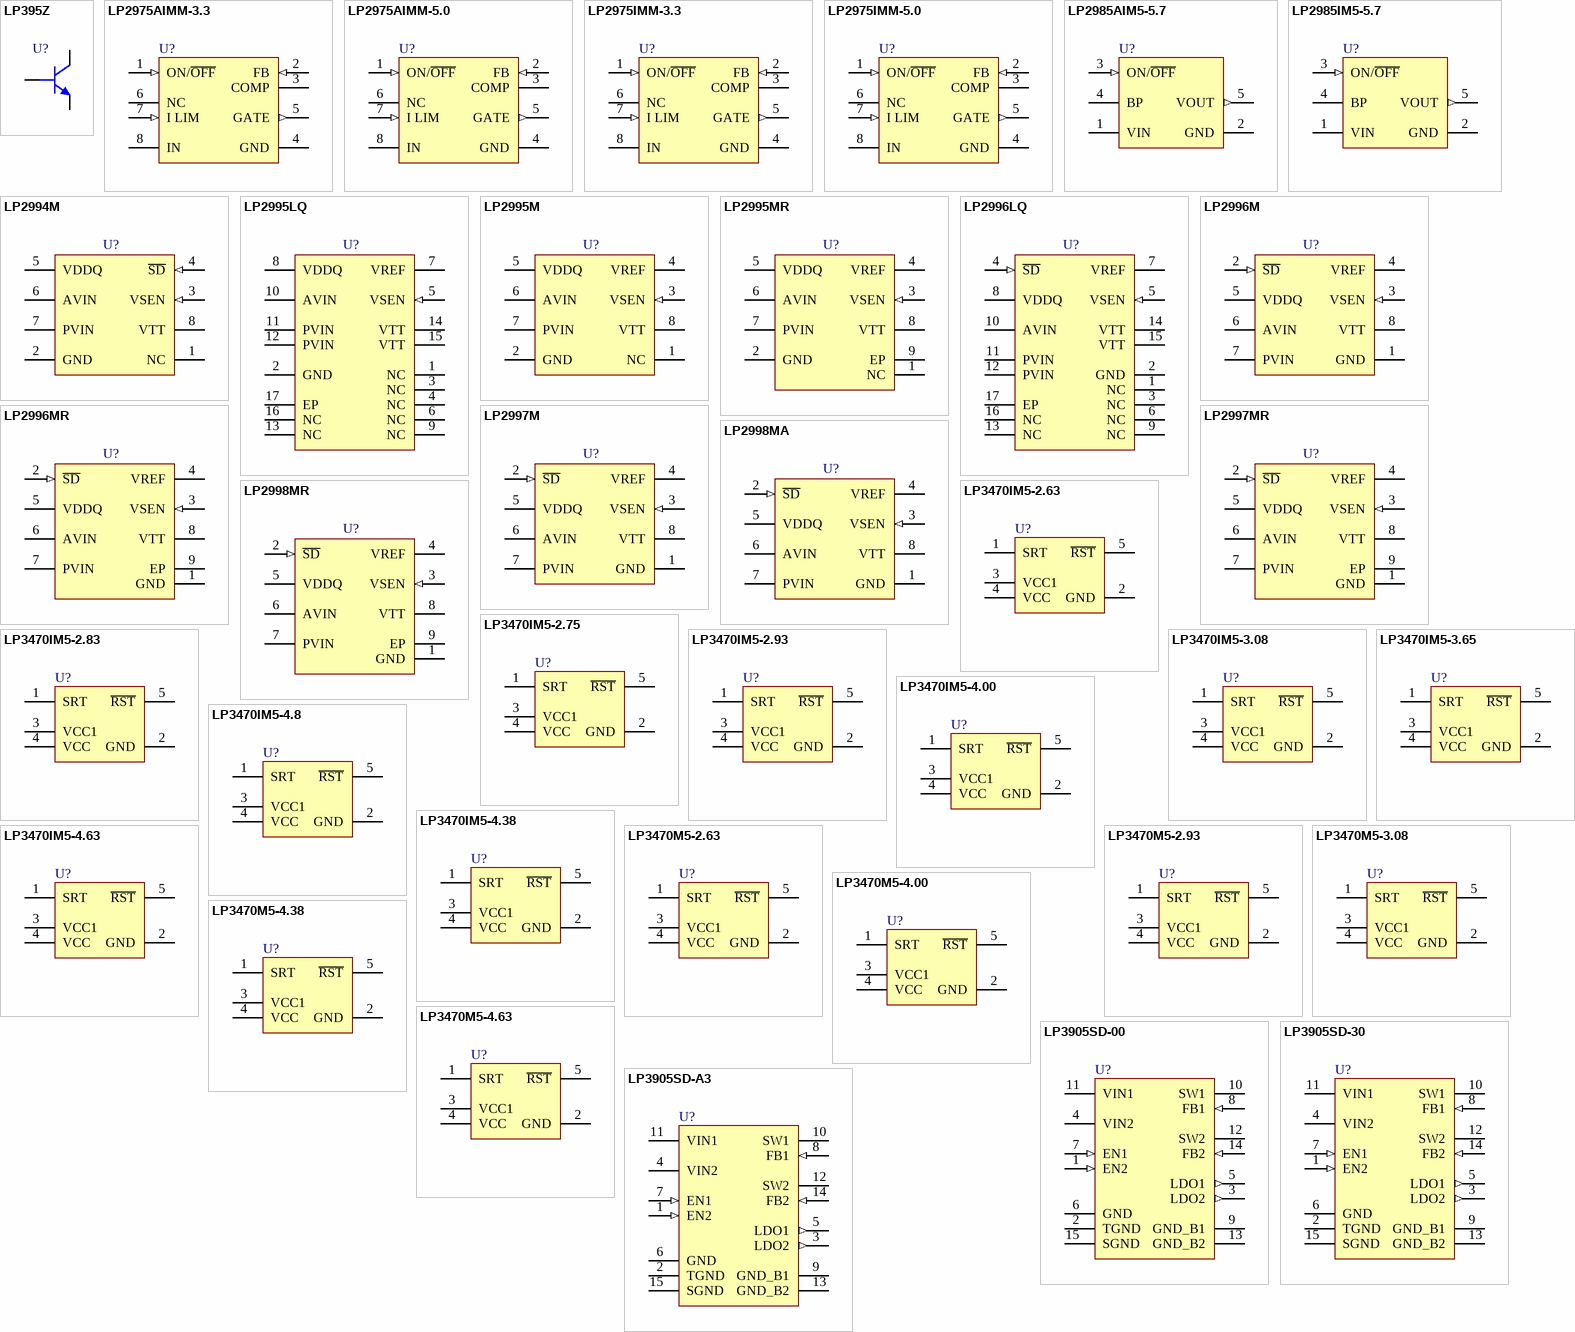
[diagram p19: symbols LP395Z to LP3905SD-A3]

## LP395Z
designator U?
Ultra Reliable Power Transistor; PartNumber: LP395Z; Manufacturer: National Semiconductor; CompType: MiscPower; PackageTopMarking: NSXYTT*LP*395Z; PowerWise: N; FirstPublished: 4-Dec-2008; DatasheetVersion: Apr-2005; PackageVersion: revG, Sep-2000; PackageReference: Z03A; Publisher: Altium Limited; PackageDescription: TO-92, Molded, 3 Lead; RoHS: O; PinCount: 3; DigiKeyPartNumber: LP395Z-ND; Code_JEDEC: TO-226-AA; ComponentLink1Description: LP395 Datasheet; ComponentLink1URL: http://www.national.com/ds/LP/LP395.pdf; ComponentLink2Description: LP395 Web Page; ComponentLink2URL: http://www.national.com/pf/LP/LP395.html; ComponentLink3Description: Z03A Package Page; ComponentLink3URL: http://www.national.com/packaging/folders/z03a.html
footprint Z03A (TO, Flat Index; 3 In-Line, Axial Leads; Body Dia. 5mm; Leads 0.55 x 0.50 mm (max))
pins: 1 C, 2 B, 3 E

## LP2975AIMM-3.3
designator U?
MOSFET LDO Driver/Controller, 3.3V Output; PartNumber: LP2975AIMM-3.3; Manufacturer: National Semiconductor; CompType: MiscPower; PackageTopMarking: ZXTT*L45A; PowerWise: N; FirstPublished: 29-May-2009; DatasheetVersion: Mar-2005; PackageVersion: revF, Apr-2008; PackageReference: MUA08A; Publisher: Altium Limited; PackageDescription: MINI SOIC, .118 x .118 x .034in, 8 Lead, .0256in Pitch; RoHS: Y; PinCount: 8; DigiKeyPartNumber: LP2975AIMM-3.3CT-ND; Code_JEDEC: MO-187-AA; ComponentLink1Description: LP2975 Datasheet; ComponentLink1URL: http://www.national.com/ds/LP/LP2975.pdf; ComponentLink2Description: LP2975 Web Page; ComponentLink2URL: http://www.national.com/mpf/LP/LP2975.html; ComponentLink3Description: MUA08A Package Page; ComponentLink3URL: http://www.national.com/packaging/folders/mua08a.html
footprint MUA08A_N (TSOP, 8-Leads, Body 3x3mm, Pitch 0.65mm, IPC Medium Density)
footprint MUA08A_L (TSOP, 8-Leads, Body 3x3mm, Pitch 0.65mm, IPC High Density)
footprint MUA08A_M (TSOP, 8-Leads, Body 3x3mm, Pitch 0.65mm, IPC Low Density)
pins: 1 ON/~{OFF} (in), 2 FB (in), 3 COMP, 4 GND (power), 5 GATE (out), 6 NC, 7 I LIM (in), 8 IN (power)

## LP2975AIMM-5.0
designator U?
MOSFET LDO Driver/Controller, 5.0V Output; PartNumber: LP2975AIMM-5.0; Manufacturer: National Semiconductor; CompType: MiscPower; PackageTopMarking: ZXTT*L46A; PowerWise: N; FirstPublished: 4-Dec-2008; DatasheetVersion: Mar-2005; PackageVersion: revF, Apr-2008; PackageReference: MUA08A; Publisher: Altium Limited; PackageDescription: MINI SOIC, .118 x .118 x .034in, 8 Lead, .0256in Pitch; RoHS: O; PinCount: 8; DigiKeyPartNumber: LP2975AIMM-5.0CT-ND; Code_JEDEC: MO-187-AA; ComponentLink1Description: LP2975 Datasheet; ComponentLink1URL: http://www.national.com/ds/LP/LP2975.pdf; ComponentLink2Description: LP2975 Web Page; ComponentLink2URL: http://www.national.com/mpf/LP/LP2975.html; ComponentLink3Description: MUA08A Package Page; ComponentLink3URL: http://www.national.com/packaging/folders/mua08a.html
footprint MUA08A_N (TSOP, 8-Leads, Body 3x3mm, Pitch 0.65mm, IPC Medium Density)
footprint MUA08A_L (TSOP, 8-Leads, Body 3x3mm, Pitch 0.65mm, IPC High Density)
footprint MUA08A_M (TSOP, 8-Leads, Body 3x3mm, Pitch 0.65mm, IPC Low Density)
pins: 1 ON/~{OFF} (in), 2 FB (in), 3 COMP, 4 GND (power), 5 GATE (out), 6 NC, 7 I LIM (in), 8 IN (power)

## LP2975IMM-3.3
designator U?
MOSFET LDO Driver/Controller, 3.3V Output; PartNumber: LP2975IMM-3.3; Manufacturer: National Semiconductor; CompType: MiscPower; PackageTopMarking: ZXTT*L45B; PowerWise: N; FirstPublished: 29-May-2009; DatasheetVersion: Mar-2005; PackageVersion: revF, Apr-2008; PackageReference: MUA08A; Publisher: Altium Limited; PackageDescription: MINI SOIC, .118 x .118 x .034in, 8 Lead, .0256in Pitch; RoHS: Y; PinCount: 8; DigiKeyPartNumber: LP2975IMM-3.3CT-ND; Code_JEDEC: MO-187-AA; ComponentLink1Description: LP2975 Datasheet; ComponentLink1URL: http://www.national.com/ds/LP/LP2975.pdf; ComponentLink2Description: LP2975 Web Page; ComponentLink2URL: http://www.national.com/mpf/LP/LP2975.html; ComponentLink3Description: MUA08A Package Page; ComponentLink3URL: http://www.national.com/packaging/folders/mua08a.html
footprint MUA08A_N (TSOP, 8-Leads, Body 3x3mm, Pitch 0.65mm, IPC Medium Density)
footprint MUA08A_L (TSOP, 8-Leads, Body 3x3mm, Pitch 0.65mm, IPC High Density)
footprint MUA08A_M (TSOP, 8-Leads, Body 3x3mm, Pitch 0.65mm, IPC Low Density)
pins: 1 ON/~{OFF} (in), 2 FB (in), 3 COMP, 4 GND (power), 5 GATE (out), 6 NC, 7 I LIM (in), 8 IN (power)

## LP2975IMM-5.0
designator U?
MOSFET LDO Driver/Controller, 5.0V Output; PartNumber: LP2975IMM-5.0; Manufacturer: National Semiconductor; CompType: MiscPower; PackageTopMarking: ZXTT*L46B; PowerWise: N; FirstPublished: 4-Dec-2008; DatasheetVersion: Mar-2005; PackageVersion: revF, Apr-2008; PackageReference: MUA08A; Publisher: Altium Limited; PackageDescription: MINI SOIC, .118 x .118 x .034in, 8 Lead, .0256in Pitch; RoHS: Y; PinCount: 8; DigiKeyPartNumber: LP2975IMM-5.0CT-ND; Code_JEDEC: MO-187-AA; ComponentLink1Description: LP2975 Datasheet; ComponentLink1URL: http://www.national.com/ds/LP/LP2975.pdf; ComponentLink2Description: LP2975 Web Page; ComponentLink2URL: http://www.national.com/mpf/LP/LP2975.html; ComponentLink3Description: MUA08A Package Page; ComponentLink3URL: http://www.national.com/packaging/folders/mua08a.html
footprint MUA08A_N (TSOP, 8-Leads, Body 3x3mm, Pitch 0.65mm, IPC Medium Density)
footprint MUA08A_L (TSOP, 8-Leads, Body 3x3mm, Pitch 0.65mm, IPC High Density)
footprint MUA08A_M (TSOP, 8-Leads, Body 3x3mm, Pitch 0.65mm, IPC Low Density)
pins: 1 ON/~{OFF} (in), 2 FB (in), 3 COMP, 4 GND (power), 5 GATE (out), 6 NC, 7 I LIM (in), 8 IN (power)

## LP2985AIM5-5.7
designator U?
Micropower 150 mA Low-Noise Ultra Low-Dropout Regulator, SOT-23 Package; PartNumber: LP2985AIM5-5.7; Manufacturer: National Semiconductor; CompType: MiscPower; PackageTopMarking: LKTA*XTT; PowerWise: N; FirstPublished: 4-Dec-2008; DatasheetVersion: Jul-2007; PackageVersion: revD, Aug-2008; PackageReference: MF05A; Publisher: Altium Limited; PackageDescription: Molded SOT-23, .115 x .063 x .040 in Body, 5 Lead, .0375 in Pitch; RoHS: Y; PinCount: 5; ComponentLink1Description: LP2985 Datasheet; ComponentLink1URL: http://www.national.com/ds/LP/LP2985.pdf; ComponentLink2Description: LP2985 Web Page; ComponentLink2URL: http://www.national.com/pf/LP/LP2985.html; ComponentLink3Description: MF05A Package Page; ComponentLink3URL: http://www.national.com/packaging/folders/mf05a.html
footprint MF05A_N (SOT23, 5-Leads, Body 2.9x1.6mm, Pitch 0.95mm, Lead Span 2.8mm, IPC Medium Density)
footprint MF05A_L (SOT23, 5-Leads, Body 2.9x1.6mm, Pitch 0.95mm, Lead Span 2.8mm, IPC High Density)
footprint MF05A_M (SOT23, 5-Leads, Body 2.9x1.6mm, Pitch 0.95mm, Lead Span 2.8mm, IPC Low Density)
pins: 1 VIN (power), 2 GND (power), 3 ON/~{OFF} (in), 4 BP, 5 VOUT (out)

## LP2985IM5-5.7
designator U?
Micropower 150 mA Low-Noise Ultra Low-Dropout Regulator, SOT-23 Package; PartNumber: LP2985IM5-5.7; Manufacturer: National Semiconductor; CompType: MiscPower; PackageTopMarking: LKTB*XTT; PowerWise: N; FirstPublished: 4-Dec-2008; DatasheetVersion: Jul-2007; PackageVersion: revD, Aug-2008; PackageReference: MF05A; Publisher: Altium Limited; PackageDescription: Molded SOT-23, .115 x .063 x .040 in Body, 5 Lead, .0375 in Pitch; RoHS: Y; PinCount: 5; ComponentLink1Description: LP2985 Datasheet; ComponentLink1URL: http://www.national.com/ds/LP/LP2985.pdf; ComponentLink2Description: LP2985 Web Page; ComponentLink2URL: http://www.national.com/pf/LP/LP2985.html; ComponentLink3Description: MF05A Package Page; ComponentLink3URL: http://www.national.com/packaging/folders/mf05a.html
footprint MF05A_N (SOT23, 5-Leads, Body 2.9x1.6mm, Pitch 0.95mm, Lead Span 2.8mm, IPC Medium Density)
footprint MF05A_L (SOT23, 5-Leads, Body 2.9x1.6mm, Pitch 0.95mm, Lead Span 2.8mm, IPC High Density)
footprint MF05A_M (SOT23, 5-Leads, Body 2.9x1.6mm, Pitch 0.95mm, Lead Span 2.8mm, IPC Low Density)
pins: 1 VIN (power), 2 GND (power), 3 ON/~{OFF} (in), 4 BP, 5 VOUT (out)

## LP2994M
designator U?
DDR Termination Regulator; PartNumber: LP2994M; Manufacturer: National Semiconductor; CompType: MiscPower; PackageTopMarking: NSZXTT*2994M; FirstPublished: 4-Dec-2008; DatasheetVersion: Jun-2005; PackageVersion: revL, Sep-2006; PackageReference: M08A; Publisher: Altium Limited; PackageDescription: SOIC Narrow, 4.9 x 3.9 x 1.45mm, 8 Lead, 1.27mm Pitch; RoHS: Y; PinCount: 8; DigiKeyPartNumber: LP2994M-ND; Code_JEDEC: MS-012-AA; Code_IPC: SOIC127P600-8; ComponentLink1Description: LP2994 Datasheet; ComponentLink1URL: http://www.national.com/ds/LP/LP2994.pdf; ComponentLink2Description: LP2994 Web Page; ComponentLink2URL: http://www.national.com/pf/LP/LP2994.html; ComponentLink3Description: M08A Package Page; ComponentLink3URL: http://www.national.com/packaging/folders/m08a.html
footprint M08A_N (SOIC, 8-Leads, Body 4.9x3.9mm, Pitch 1.27mm, IPC Medium Density)
footprint M08A_L (SOIC, 8-Leads, Body 4.9x3.9mm, Pitch 1.27mm, IPC High Density)
footprint M08A_M (SOIC, 8-Leads, Body 4.9x3.9mm, Pitch 1.27mm, IPC Low Density)
pins: 1 NC, 2 GND (power), 3 VSEN (in), 4 ~{SD} (in), 5 VDDQ (power), 6 AVIN (power), 7 PVIN (power), 8 VTT (power)